# Altium schematic symbol library LIBRARY_SCH.SCHLIB: 713 symbols (part 6 of 6)
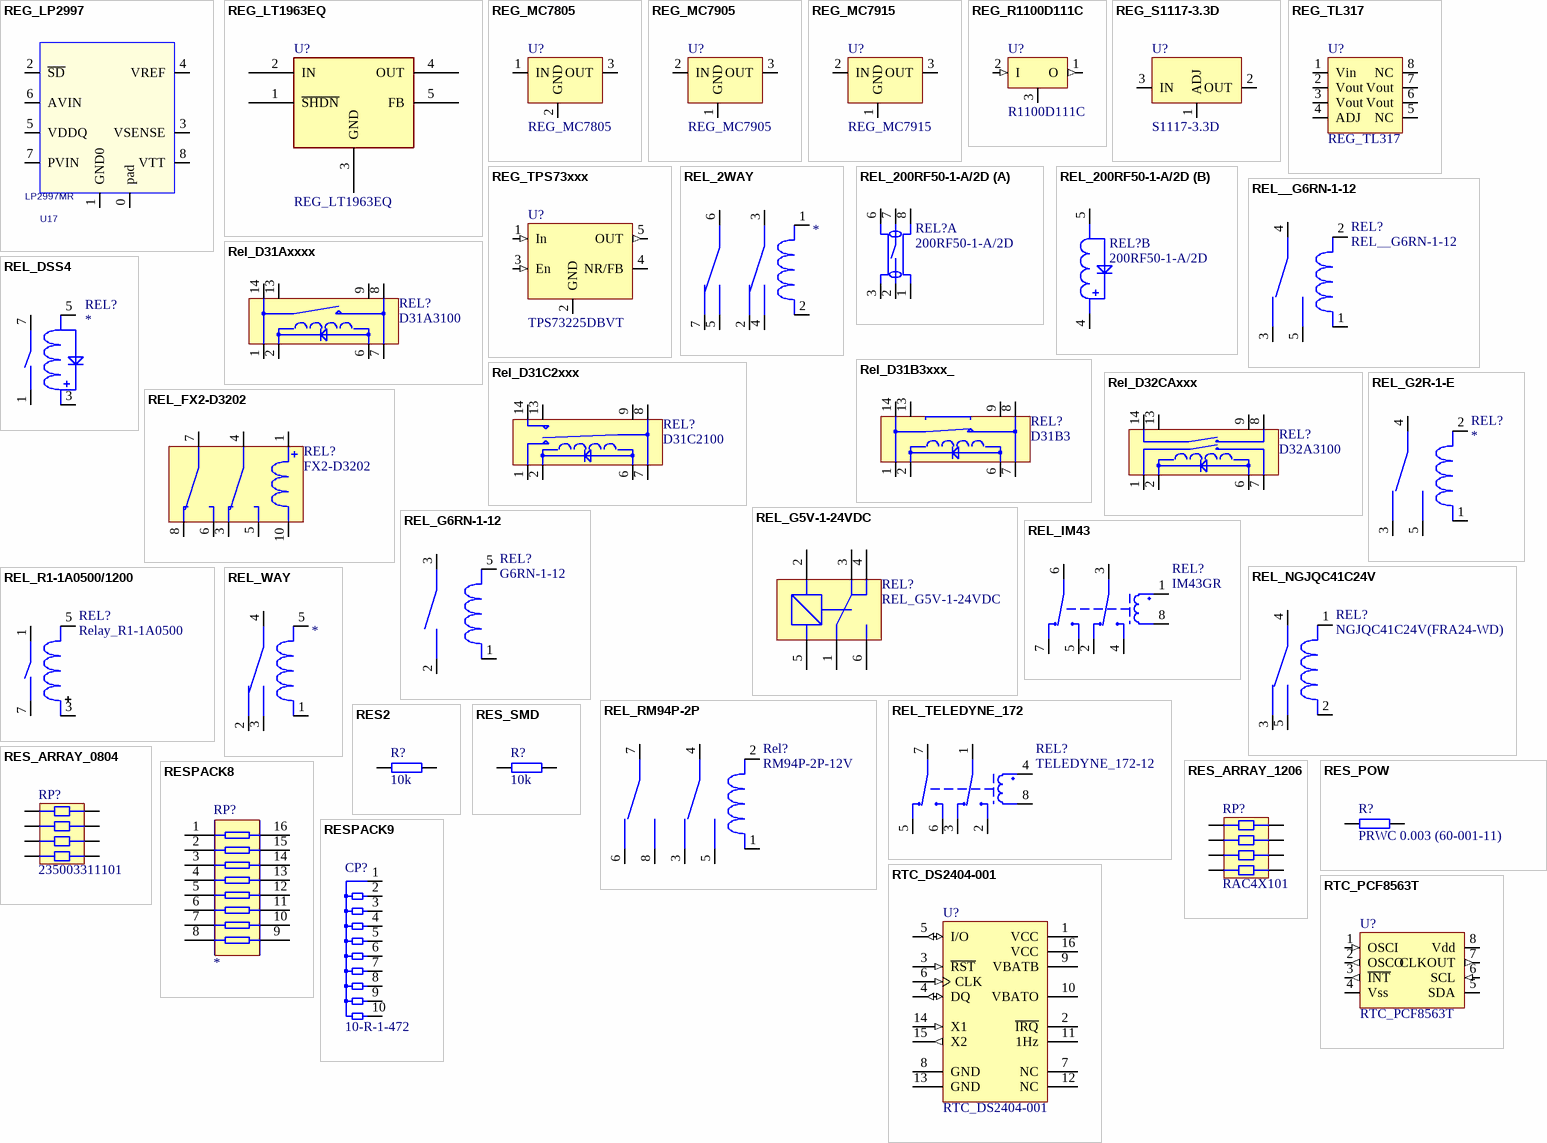
[diagram p44: symbols REG_LP2997 to RTC_PCF8563T]

## RES_ARRAY_0804
designator RP?, comment 235003311101
Resistor network 0804 PHYCOMP (Farnell)
footprint YC124
pins: 1, 2, 3, 4, 5, 6, 7, 8
2 alternate drawings of the same symbol

## RES_ARRAY_1206
designator RP?, comment RAC4X101
Resistor network 1206 (4x0402) Maritex RAC4Xxxx
footprint CAY-16
pins: 1, 2, 3, 4, 5, 6, 7, 8
2 alternate drawings of the same symbol

## RES_POW
designator R?, comment PRWC 0.003 (60-001-11)
power resistor (ELFA)
footprint PRWC-5
pins: 1, 2
2 alternate drawings of the same symbol

## RES_SMD
designator R?, comment 10k
SMD Resistor
footprint 0805
footprint 1206
footprint 0603
footprint 0402
pins: 1, 2
2 alternate drawings of the same symbol

## RESPACK8
designator RP?
footprint DIP-16
pins: 1, 2, 3, 4, 5, 6, 7, 8, 9, 10, 11, 12, 13, 14, 15, 16
2 alternate drawings of the same symbol

## RESPACK9
designator CP?, comment 10-R-1-472
footprint SIL-10
pins: 1, 2, 3, 4, 5, 6, 7, 8, 9, 10

## RTC_DS2404-001
designator U?
EconoRAM Time Chip; Package Information: Latest Revision: 1999; Note: Pin numbers 7 and 12 are Not Connected (NC); Published: 13-Oct-2000; Revision: 17-Jul-2002: Re-released for DXP Platform.; Datasheet: Latest Revision: 9-Feb-1998; Package Reference: DIP16; Publisher: Altium Limited
footprint DIP-16
pins: 1 VCC (power), 2 ~{IRQ} (oc), 3 ~{RST} (in), 4 DQ (io), 5 I/O (io), 6 CLK (in), 7 NC, 8 GND (power), 9 VBATB (power), 10 VBATO (power), 11 1Hz (oc), 12 NC, 13 GND (power), 14 X1 (in), 15 X2 (out), 16 VCC (power)

## RTC_PCF8563T
designator U?
Real-time clock/calendar (TME)
footprint SO-8
pins: 1 OSCI (in), 2 OSCO (out), 3 ~{INT} (out), 4 Vss (power), 5 SDA (io), 6 SCL (in), 7 CLKOUT (out), 8 Vdd (power)

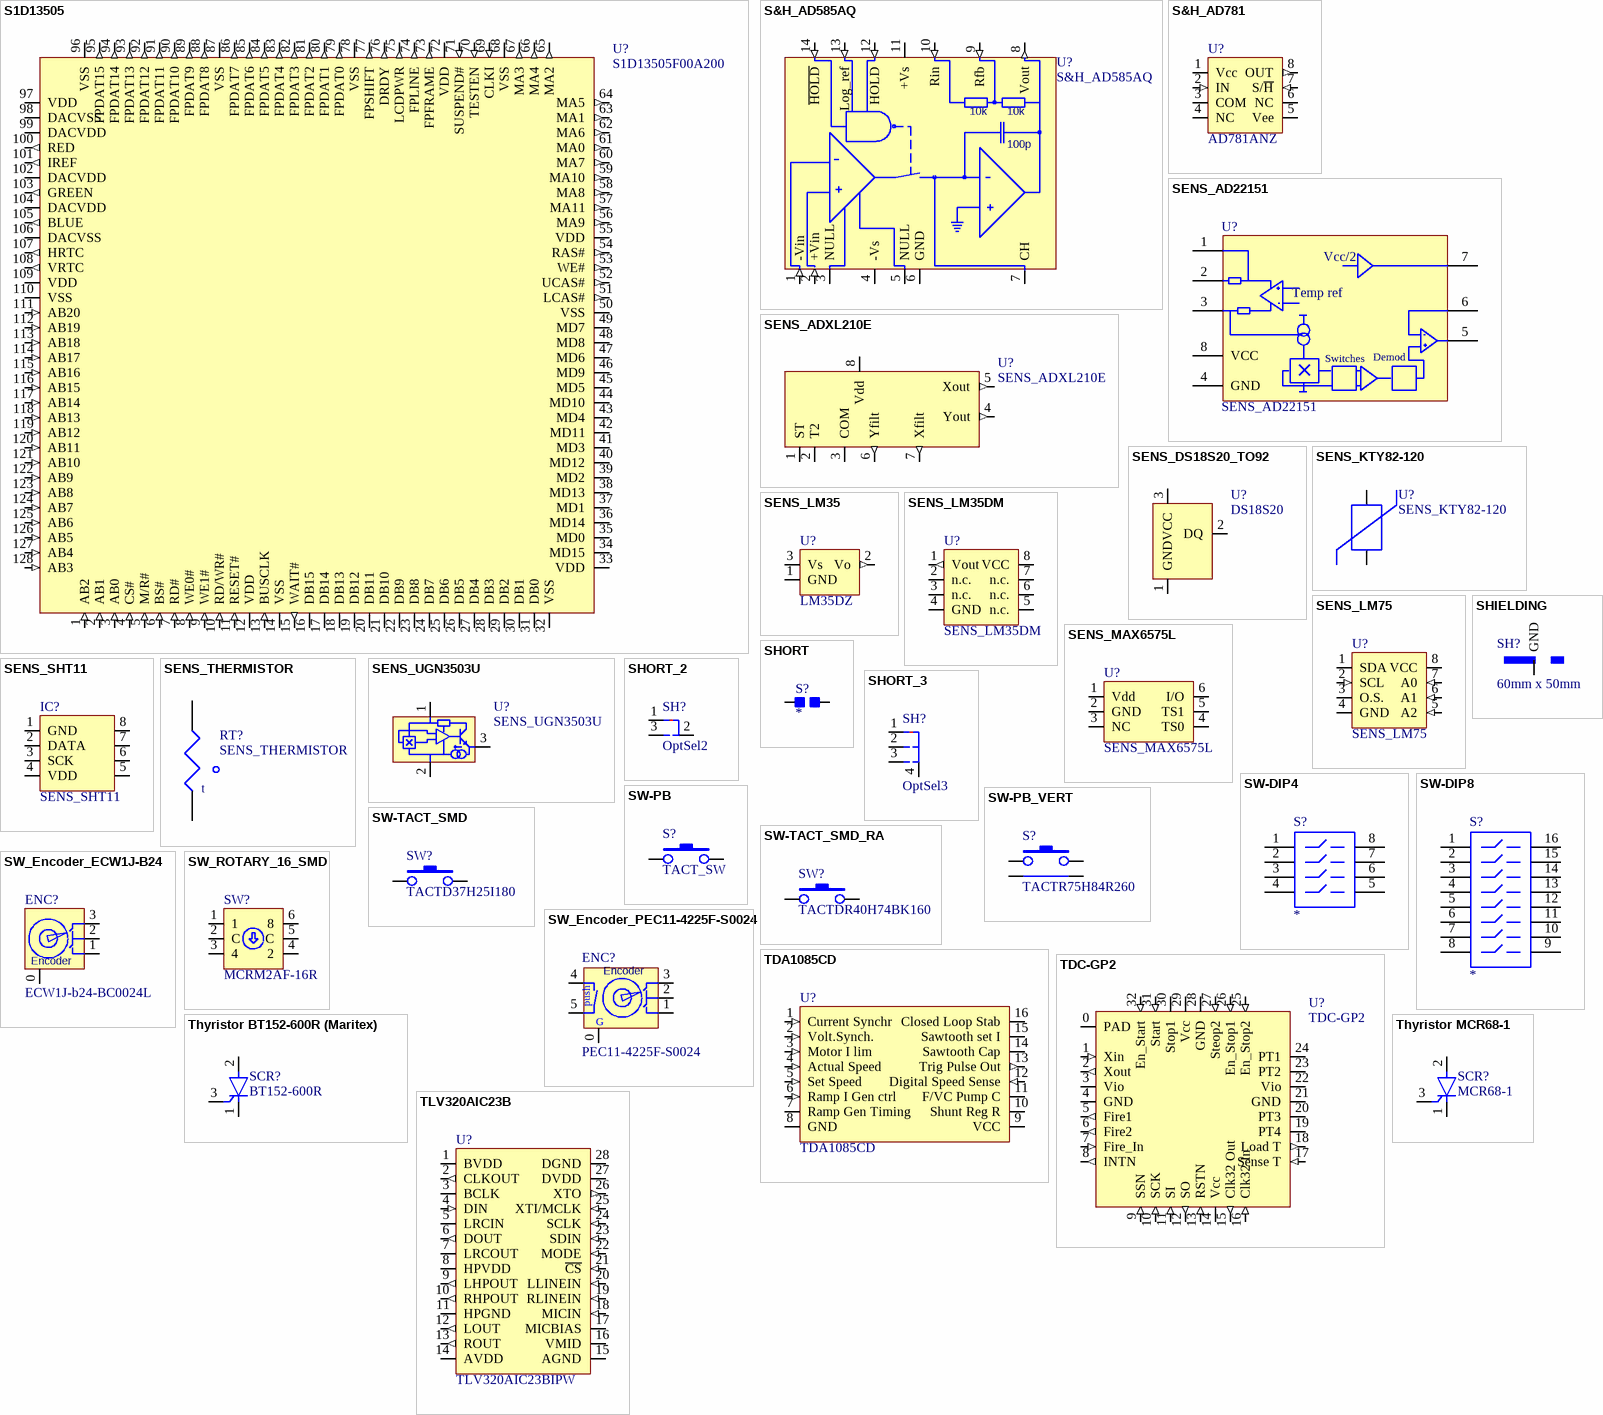
[diagram p38: symbols S1D13505 to TLV320AIC23B]

## S1D13505
designator U?, comment S1D13505F00A200
Embedded RAMDAC LCD/CRT controller (Rutronik)
footprint QFP128_EPSON
pins: 1 AB2 (in), 2 AB1 (in), 3 AB0 (in), 4 CS# (in), 5 M/R# (in), 6 BS# (in), 7 RD# (in), 8 WE0# (in), 9 WE1# (in), 10 RD/WR# (in), 11 RESET# (in), 12 VDD (power), 13 BUSCLK (in), 14 VSS (power), 15 WAIT# (out), 16 DB15 (io), 17 DB14 (io), 18 DB13 (io), 19 DB12 (io), 20 DB11 (io), 21 DB10 (io), 22 DB9 (io), 23 DB8 (io), 24 DB7 (io), 25 DB6 (io), 26 DB5 (io), 27 DB4 (io), 28 DB3 (io), 29 DB2 (io), 30 DB1 (io), 31 DB0 (io), 32 VSS (power), 33 VDD (power), 34 MD15 (io), 35 MD0 (io), 36 MD14 (io), 37 MD1 (io), 38 MD13 (io), 39 MD2 (io), 40 MD12 (io), 41 MD3 (io), 42 MD11 (io), 43 MD4 (io), 44 MD10 (io), 45 MD5 (io), 46 MD9 (io), 47 MD6 (io), 48 MD8 (io), 49 MD7 (io), 50 VSS (power), 51 LCAS# (out), 52 UCAS# (out), 53 WE# (out), 54 RAS# (out), 55 VDD (power), 56 MA9 (out), 57 MA11 (out), 58 MA8 (out), 59 MA10 (out), 60 MA7 (out), 61 MA0 (out), 62 MA6 (out), 63 MA1 (out), 64 MA5 (out), 65 MA2 (out), 66 MA4 (out), 67 MA3 (out), 68 VSS (power), 69 CLKI (in), 70 TESTEN (in), 71 SUSPEND# (in), 72 VDD (power), 73 FPFRAME (out), 74 FPLINE (out), 75 LCDPWR (out), 76 DRDY (out), 77 FPSHIFT (out), 78 VSS (power), 79 FPDAT0 (out), 80 FPDAT1 (out), 81 FPDAT2 (out), 82 FPDAT3 (out), 83 FPDAT4 (out), 84 FPDAT5 (out), 85 FPDAT6 (out), 86 FPDAT7 (out), 87 VSS (power), 88 FPDAT8 (out), 89 FPDAT9 (out), 90 FPDAT10 (out), 91 FPDAT11 (out), 92 FPDAT12 (out), 93 FPDAT13 (out), 94 FPDAT14 (out), 95 FPDAT15 (out), 96 VSS (power), 97 VDD (power), 98 DACVSS (power), 99 DACVDD (power), 100 RED (out), 101 IREF (out), 102 DACVDD (power), 103 GREEN (out), 104 DACVDD (power), 105 BLUE (out), 106 DACVSS (power), 107 HRTC (out), 108 VRTC (out), 109 VDD (power), 110 VSS (power), 111 AB20 (in), 112 AB19 (in), 113 AB18 (in), 114 AB17 (in), 115 AB16 (in), 116 AB15 (in), 117 AB14 (in), 118 AB13 (in), 119 AB12 (in), 120 AB11 (in), 121 AB10 (in), 122 AB9 (in), 123 AB8 (in), 124 AB7 (in), 125 AB6 (in), 126 AB5 (in), 127 AB4 (in), 128 AB3 (in)

## S&H_AD585AQ
designator U?
Precision Sample & Hold circuit
footprint DIP-14
pins: 1 -Vin (in), 2 +Vin (in), 3 NULL, 4 -Vs (power), 5 NULL, 6 GND (power), 7 CH, 8 Vout (out), 9 Rfb (in), 10 Rin (in), 11 +Vs (power), 12 HOLD (in), 13 Log_ref (in), 14 ~{HOLD} (in)
text: 10k; 100p

## S&H_AD781
designator U?, comment AD781ANZ
700ns Sample and Hold
footprint dip-8
pins: 1 Vcc (power), 2 IN (in), 3 COM (power), 4 NC, 5 Vee (power), 6 NC, 7 S/~{H} (in), 8 OUT (out)

## SENS_AD22151
designator U?
magnetic field sensor
footprint SO-8
pins: 1, 2, 3, 4 GND, 5, 6, 7, 8 VCC
2 alternate drawings of the same symbol
text: Vcc/2; Temp ref; Switches; Demod

## SENS_ADXL210E
designator U?
+/-10 g Dual-Axis Accelerometer with Duty Cycle
footprint CLCC8
pins: 1 ST, 2 T2, 3 COM (power), 4 Yout (out), 5 Xout (out), 6 Yfilt (out), 7 Xfilt (out), 8 Vdd (power)

## SENS_DS18S20_TO92
designator U?, comment DS18S20
footprint to-92inv
pins: 1 GND (power), 2 DQ (io), 3 VCC (power)

## SENS_KTY82-120
designator U?
Phillips temp sensor
footprint TO-92A
pins: 1, 3
2 alternate drawings of the same symbol

## SENS_LM35
designator U?, comment LM35DZ
temperature sensor
footprint TO-92a
pins: 1 GND (power), 2 Vo (out), 3 Vs (power)

## SENS_LM35DM
designator U?
footprint SO-8
pins: 1 Vout (out), 2 n.c., 3 n.c., 4 GND (power), 5 n.c., 6 n.c., 7 n.c., 8 VCC (power)

## SENS_LM75
designator U?
I2C temperature sensor
footprint SO-8
pins: 1 SDA (io), 2 SCL (in), 3 O.S. (oc), 4 GND (power), 5 A2 (in), 6 A1 (in), 7 A0 (in), 8 VCC (power)

## SENS_MAX6575L
designator U?
Temperature sensor
footprint SOT23-6
pins: 1 Vdd, 2 GND, 3 NC, 4 TS0, 5 TS1, 6 I/O
2 alternate drawings of the same symbol

## SENS_SHT11
designator IC?
temp/humidity sensor
footprint SHT11
pins: 1 GND, 2 DATA, 3 SCK, 4 VDD, 5, 6, 7, 8
2 alternate drawings of the same symbol

## SENS_THERMISTOR
designator RT?
pins: 1, 2
2 alternate drawings of the same symbol
text: t

## SENS_UGN3503U
designator U?
magnetic field switch
footprint UGN3503U
pins: 1 Vcc, 2 gnd, 3 out
2 alternate drawings of the same symbol

## SHIELDING
designator SH?, comment 60mm x 50mm
shield box ELFA
footprint shield_60x50
footprint shield_70x50
pins: 1 GND
2 alternate drawings of the same symbol

## SHORT
designator S?
option selection
footprint SHORT
pins: 1, 2
2 alternate drawings of the same symbol

## SHORT_2
designator SH?, comment OptSel2
footprint short2
pins: 1 (power), 2 (power), 3 (power)

## SHORT_3
designator SH?, comment OptSel3
footprint short3
pins: 1 (power), 2 (power), 3 (power), 4 (power)

## SW-DIP4
designator S?
DIP SWITCH
footprint DIP-8
footprint NHDS-8
pins: 1, 2, 3, 4, 5, 6, 7, 8
2 alternate drawings of the same symbol

## SW-DIP8
designator S?
footprint DIP-16
footprint NHDS-16
pins: 1, 2, 3, 4, 5, 6, 7, 8, 9, 10, 11, 12, 13, 14, 15, 16
2 alternate drawings of the same symbol

## SW-PB
designator S?, comment TACT_SW
Push button
footprint TACT_SWITCH
footprint tact_b3s (B3S serie Omron Tact Switch SMD)
footprint tact_KSR213 (Cannon ITT miniature tact switch RS ref 228-4553)
footprint TACT-DQ62H73G160 (tact switch SMT (Maritex))
pins: 1, 2
2 alternate drawings of the same symbol

## SW-PB_VERT
designator S?, comment TACTR75H84R260
Push button
footprint TACTR75H84R260 (TACTR75H84R260 (maritex))
pins: 1, 2, 3, 4
2 alternate drawings of the same symbol

## SW-TACT_SMD
designator SW?, comment TACTD37H25I180
Push button
footprint TACTD37H25I180
pins: 1, 2
2 alternate drawings of the same symbol

## SW-TACT_SMD_RA
designator SW?, comment TACTDR40H74BK160
Push button
footprint TACTDR40H74BK160 (Footprint not found)
pins: 1, 1a, 2, 2a
2 alternate drawings of the same symbol

## SW_Encoder_ECW1J-B24
designator ENC?, comment ECW1J-b24-BC0024L
Bourns rotary encoder
footprint Encoder_ECW1J-B24 (bourns rotary encoder)
pins: 0, 1 PH1, 2 GND, 3 PH2
text: Encoder

## SW_Encoder_PEC11-4225F-S0024
designator ENC?, comment PEC11-4225F-S0024
Bourns rotary encoder
footprint Encoder_PEC11-4225F-S0024 (bourns rotary encoder)
pins: 0, 0a, 1 PH1, 2 GND, 3 PH2, 4, 5
text: Encoder; push; G

## SW_ROTARY_16_SMD
designator SW?, comment MCRM2AF-16R
ROTARY DIP SWITCH, SMD (Farnell)
footprint MCRM2AF-16R
pins: 1 (power), 2 C (power), 3 4 (power), 4 2 (power), 5 C (power), 6 8 (power)

## TDA1085CD
designator U?
Univeral motor speed controller
footprint DIP-16
footprint SO-16
pins: 1 Current Synchr (in), 2 Volt.Synch. (in), 3 Motor I lim (in), 4 Actual Speed (in), 5 Set Speed (in), 6 Ramp I Gen ctrl (in), 7 Ramp Gen Timing, 8 GND (power), 9 VCC (power), 10 Shunt Reg R (power), 11 F/VC Pump C, 12 Digital Speed Sense (in), 13 Trig Pulse Out (out), 14 Sawtooth Cap, 15 Sawtooth set I, 16 Closed Loop Stab

## TDC-GP2
designator U?
precision time measurement circuit
footprint QFN5-32
pins: 0 PAD, 1 Xin (in), 2 Xout (out), 3 Vio (power), 4 GND (power), 5 Fire1 (out), 6 Fire2 (out), 7 Fire_In (in), 8 INTN (out), 9 SSN (in), 10 SCK (in), 11 SI (in), 12 SO (out), 13 RSTN (in), 14 Vcc (power), 15 Clk32 Out (out), 16 Clk32 In (in), 17 Sense T (in), 18 Load T (out), 19 PT4 (io), 20 PT3 (io), 21 GND (power), 22 Vio (power), 23 PT2 (io), 24 PT1 (io), 25 En_Stop2 (in), 26 En_Stop1 (in), 27 Steop2 (in), 28 GND (power), 29 Vcc (power), 30 Stop1 (power), 31 Start (in), 32 En_Start (in)

## Thyristor BT152-600R (Maritex)
designator SCR?, comment BT152-600R
Thyristor
footprint TO-220
pins: 1 A1, 2 A2, 3 G
2 alternate drawings of the same symbol

## Thyristor MCR68-1
designator SCR?, comment MCR68-1
Thyristor
footprint TO-220
pins: 1 A1, 2 A2, 3 G
2 alternate drawings of the same symbol

## TLV320AIC23B
designator U?, comment TLV320AIC23BIPW
Stereo Audio CODEC 8-96 KHz
footprint TSSOP28
pins: 1 BVDD (power), 2 CLKOUT (out), 3 BCLK (io), 4 DIN (in), 5 LRCIN (io), 6 DOUT (out), 7 LRCOUT (io), 8 HPVDD (power), 9 LHPOUT (out), 10 RHPOUT (out), 11 HPGND (power), 12 LOUT (out), 13 ROUT (out), 14 AVDD (power), 15 AGND (power), 16 VMID (power), 17 MICBIAS, 18 MICIN (in), 19 RLINEIN (in), 20 LLINEIN (in), 21 ~{CS} (in), 22 MODE (in), 23 SDIN (in), 24 SCLK (in), 25 XTI/MCLK (in), 26 XTO (out), 27 DVDD (power), 28 DGND (power)

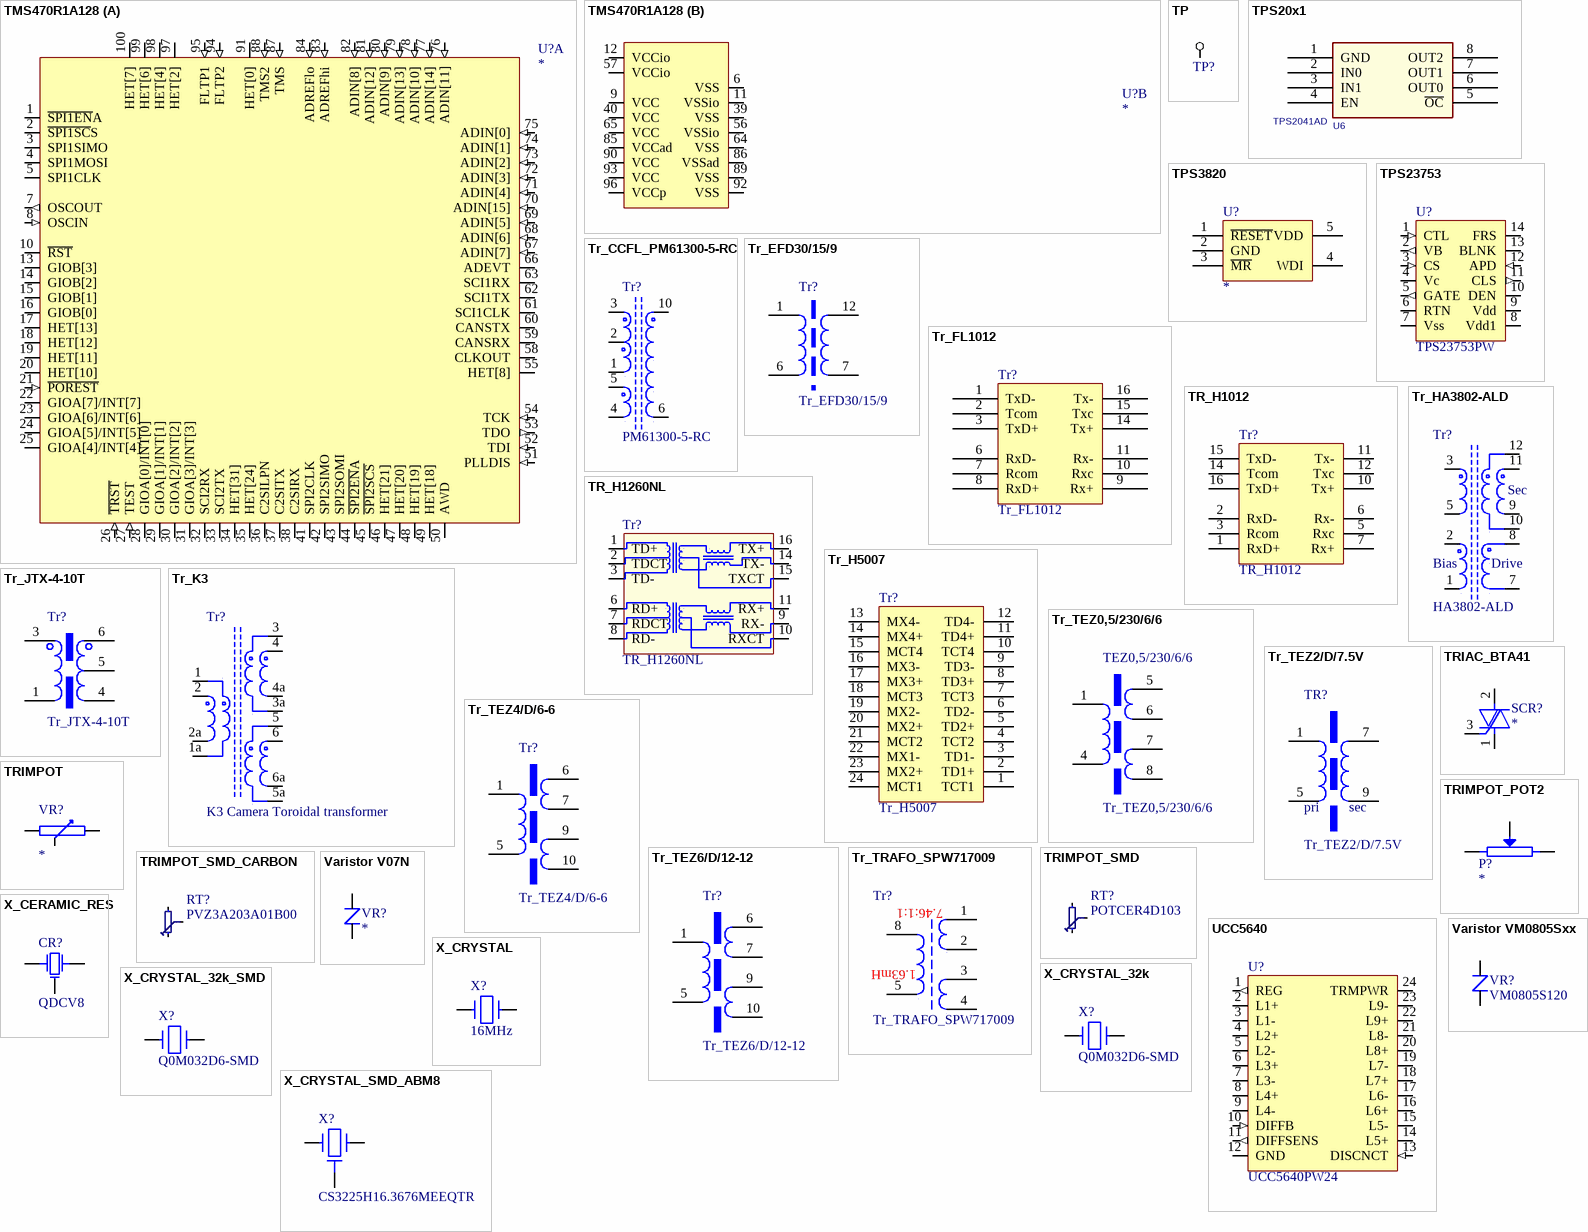
[diagram p39: symbols TMS470R1A128 to X_CRYSTAL_SMD_ABM8]

## TMS470R1A128
designator U?
TI ARM  based processor
footprint PQFP-G100
part A pins: 1 ~{SPI1EN}A (io), 2 ~{SPI1SC}S (io), 3 SPI1SIMO (io), 4 SPI1MOSI (io), 5 SPI1CLK (io), 7 OSCOUT (out), 8 OSCIN (in), 10 ~{RST} (io), 13 GIOB[3] (io), 14 GIOB[2] (io), 15 GIOB[1] (io), 16 GIOB[0] (io), 17 HET[13] (io), 18 HET[12] (io), 19 HET[11] (io), 20 HET[10] (io), 21 ~{POREST} (in), 22 GIOA[7]/INT[7] (io), 23 GIOA[6]/INT[6] (io), 24 GIOA[5]/INT[5] (io), 25 GIOA[4]/INT[4] (io), 26 ~{TRST} (in), 27 TEST (in), 28 GIOA[0]/INT[0] (io), 29 GIOA[1]/INT[1] (io), 30 GIOA[2]/INT[2] (io), 31 GIOA[3]/INT[3] (io), 32 SCI2RX (io), 33 SCI2TX (io), 34 HET[31] (io), 35 HET[24] (io), 36 C2SILPN (io), 37 C2SITX (io), 38 C2SIRX (io), 41 SPI2CLK (io), 42 SPI2SIMO (io), 43 SPI2SOMI (io), 44 ~{SPI2EN}A (io), 45 ~{SPI2SCS} (io), 46 HET[21] (io), 47 HET[20] (io), 48 HET[19] (io), 49 HET[18] (io), 50 AWD (io), 51 PLLDIS (in), 52 TDI (in), 53 TDO (out), 54 TCK (in), 55 HET[8] (io), 58 CLKOUT (io), 59 CANSRX (io), 60 CANSTX (io), 61 SCI1CLK (io), 62 SCI1TX (io), 63 SCI1RX (io), 66 ADEVT (io), 67 ADIN[7] (in), 68 ADIN[6] (in), 69 ADIN[5] (in), 70 ADIN[15] (in), 71 ADIN[4] (in), 72 ADIN[3] (in), 73 ADIN[2] (in), 74 ADIN[1] (in), 75 ADIN[0] (in), 76 ADIN[11] (in), 77 ADIN[14] (in), 78 ADIN[10] (in), 79 ADIN[13] (in), 80 ADIN[9] (in), 81 ADIN[12] (in), 82 ADIN[8] (in), 83 ADREFhi (in), 84 ADREFlo (in), 87 TMS (in), 88 TMS2 (in), 91 HET[0] (io), 94 FLTP2 (in), 95 FLTP1 (in), 97 HET[2] (io), 98 HET[4] (io), 99 HET[6] (io), 100 HET[7] (io)
part B pins: 6 VSS, 9 VCC, 11 VSSio, 12 VCCio, 39 VSS, 40 VCC, 56 VSSio, 57 VCCio, 64 VSS, 65 VCC, 85 VCCad, 86 VSSad, 89 VSS, 90 VCC, 92 VSS, 93 VCC, 96 VCCp

## TP
designator TP?  (value not drawn)
Testpoint
footprint TP
footprint testpoint
pins: 1
2 alternate drawings of the same symbol

## TPS20x1
designator U6, comment TPS2041AD
footprint SO-8
footprint DGN8
pins: 1 GND, 2 IN0, 3 IN1, 4 EN, 5 ~{OC}, 6 OUT0, 7 OUT1, 8 OUT2

## TPS3820
designator U?
Watchdog Reset IC
footprint SOT23-5
pins: 1 ~{RESET}, 2 GND, 3 ~{MR}, 4 WDI, 5 VDD
2 alternate drawings of the same symbol

## TPS23753
designator U?, comment TPS23753PW
footprint TSSOP14
pins: 1 CTL (in), 2 VB (out), 3 CS (in), 4 Vc (io), 5 GATE (out), 6 RTN (power), 7 Vss (power), 8 Vdd1 (power), 9 Vdd (power), 10 DEN (io), 11 CLS (out), 12 APD (in), 13 BLNK (io), 14 FRS (io)

## Tr_CCFL_PM61300-5-RC
designator Tr?, comment PM61300-5-RC
SMD CCFL Transformer (Farnell, Mouser)
footprint Tr_PM61300-1-RC (Footprint not found)
pins: 1, 2, 3, 4, 5, 6, 10

## Tr_EFD30/15/9
designator Tr?
footprint EFD30/15/9
pins: 1, 6, 7, 12
2 alternate drawings of the same symbol

## Tr_FL1012
designator Tr?
footprint fl1012
pins: 1 TxD-, 2 Tcom, 3 TxD+, 6 RxD-, 7 Rcom, 8 RxD+, 9 Rx+, 10 Rxc, 11 Rx-, 14 Tx+, 15 Txc, 16 Tx-
2 alternate drawings of the same symbol

## TR_H1012
designator Tr?
footprint H1012
pins: 1 RxD+, 2 RxD-, 3 Rcom, 5 Rxc, 6 Rx-, 7 Rx+, 10 Tx+, 11 Tx-, 12 Txc, 14 Tcom, 15 TxD-, 16 TxD+
2 alternate drawings of the same symbol

## TR_H1260NL
designator Tr?
ethernet trafo (TME)
footprint H1260NL
pins: 1 TD+, 2 TDCT, 3 TD-, 6 RD+, 7 RDCT, 8 RD-, 9 RX-, 10 RXCT, 11 RX+, 14 TX-, 15 TXCT, 16 TX+

## Tr_H5007
designator Tr?
GbE transformer
footprint H5007
pins: 1 TCT1, 2 TD1+, 3 TD1-, 4 TCT2, 5 TD2+, 6 TD2-, 7 TCT3, 8 TD3+, 9 TD3-, 10 TCT4, 11 TD4+, 12 TD4-, 13 MX4-, 14 MX4+, 15 MCT4, 16 MX3-, 17 MX3+, 18 MCT3, 19 MX2-, 20 MX2+, 21 MCT2, 22 MX1-, 23 MX2+, 24 MCT1
2 alternate drawings of the same symbol

## Tr_HA3802-ALD
designator Tr?, comment HA3802-ALD
13W, 5V PoE Transformer, for TI TPS23753
footprint Tr_HA3802
pins: 1, 2, 3, 5, 7, 8, 9, 10, 11, 12
text: Sec; Bias; Drive

## Tr_JTX-4-10T
designator Tr?
Mini Circuits HF transformer
footprint JTX-4-10T
pins: 1, 3, 4, 5, 6
2 alternate drawings of the same symbol

## Tr_K3
designator Tr?, comment K3 Camera Toroidal transformer
13W, 5V PoE Transformer, for TI TPS23753
footprint TR_K3_TOROID (Footprint not found)
pins: 1, 1a, 2, 2a, 3, 3a, 4, 4a, 5, 5a, 6, 6a

## Tr_TEZ0,5/230/6/6
designator TEZ0,5/230/6/6
mains transformer 0.5W breve tufvassons
footprint TEZ0,5/230/6/6 (mains transformer 0.5W BREVE)
pins: 1, 4, 5, 6, 7, 8

## Tr_TEZ2/D/7.5V
designator TR?
mains transformer TME
footprint TEZ2/D/7.5V
pins: 1, 5, 7, 9
2 alternate drawings of the same symbol
text: pri; sec

## Tr_TEZ4/D/6-6
designator Tr?
mains trnasformer TME
footprint TEZ4/D/6-6
pins: 1, 5, 6, 7, 9, 10
2 alternate drawings of the same symbol

## Tr_TEZ6/D/12-12
designator Tr?
mains trnasformer TME (BREVE TUFVASSONS)
footprint tez6/d (BREVE TUFVASSONS mains transformer (TME))
pins: 1, 5, 6, 7, 9, 10
2 alternate drawings of the same symbol

## Tr_TRAFO_SPW717009
designator Tr?
Transformer for Converter (TME
footprint SPW717009
pins: 1, 2, 3, 4, 5, 8
text: 7.46:1:1; 1.63mH

## TRIAC_BTA41
designator SCR?
TRIAC
footprint TOP3
pins: 1 A1, 2 A2, 3 G
2 alternate drawings of the same symbol

## TRIMPOT
designator VR?
Trimpot
footprint TRIMPOT
footprint trimpot1
footprint POT_RM6v (carbon variable resistor)
footprint POT_RM6h (carbon variable resistor)
footprint TRIMPOT_3059Y (0.75W MULTI-TURN CERMET ADJUSTABLE POTENTIOMETERS)
pins: 1 D, 2 W, 3 U
2 alternate drawings of the same symbol

## TRIMPOT_POT2
designator P?
Potentiometer
footprint SIP3POW
pins: 1, 2, 3
2 alternate drawings of the same symbol

## TRIMPOT_SMD
designator RT?, comment POTCER4D103
ceramic SMD trimpot (Maritex)
footprint POTCER4Dx_SCA043 (ceramic potentiometer (Maritex))
pins: 1, 2, 3

## TRIMPOT_SMD_CARBON
designator RT?, comment PVZ3A203A01B00
carbon SMD trimpot (Farnell)
footprint TRIMPOT_PVZ3A (carbon trimpot (Murata))
pins: 1, 2, 3

## UCC5640
designator U?, comment UCC5640PW24
LVD SCSI 9 line terminator
footprint TSSOP24
pins: 1 REG (out), 2 L1+ (io), 3 L1- (io), 4 L2+ (io), 5 L2- (io), 6 L3+ (io), 7 L3- (io), 8 L4+ (io), 9 L4- (io), 10 DIFFB (in), 11 DIFFSENS (out), 12 GND (power), 13 DISCNCT (in), 14 L5+ (io), 15 L5- (io), 16 L6+ (io), 17 L6- (io), 18 L7+ (io), 19 L7- (io), 20 L8+ (io), 21 L8- (io), 22 L9+ (io), 23 L9- (io), 24 TRMPWR (power)

## Varistor V07N
designator VR?
varistor 7mm (Maritex)
footprint Varistor_V07
pins: 1 (power), 2 (power)

## Varistor VM0805Sxx
designator VR?, comment VM0805S120
varistor SMD(Maritex)
footprint 0805
pins: 1 (power), 2 (power)

## X_CERAMIC_RES
designator CR?, comment QDCV8
ceramic resonator QCC(QDCV)8.00 (Maritex)
footprint ceramic_res (ceramic resonator QCC (maritex))
footprint CERAMIC_RES_QDCV (SMD ceramic resonator)
pins: 1, 2, 3

## X_CRYSTAL
designator X?, comment 16MHz
Crystal oscillator
footprint XTAL10
footprint HC-49SM
footprint watch_crystal
footprint HC-49US
pins: 1, 2
2 alternate drawings of the same symbol

## X_CRYSTAL_32k
designator X?, comment Q0M032D6-SMD
Crystal oscillator
footprint crystal_85SMX
pins: 1, 4
2 alternate drawings of the same symbol

## X_CRYSTAL_32k_SMD
designator X?, comment Q0M032D6-SMD
Crystal oscillator
footprint crystal_85SMX
pins: 1, 4
2 alternate drawings of the same symbol

## X_CRYSTAL_SMD_ABM8
designator X?, comment CS3225H16.3676MEEQTR
miniature crystal oscillator (ABRACON)
footprint XTALL_ABM8 (Footprint not found)
pins: 1, 2, 3, 4
2 alternate drawings of the same symbol